# Altium schematic symbol library DIODO.Schlib: 1 symbol
Pins are listed as number, name and electrical type; pins without a type are passive.

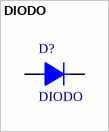
[diagram p0: symbol DIODO]

## DIODO
designator D?
pins: 1, 2